# Altium schematic symbol library ADC.SchLib: 1 symbol
Pins are listed as number, name and electrical type; pins without a type are passive.

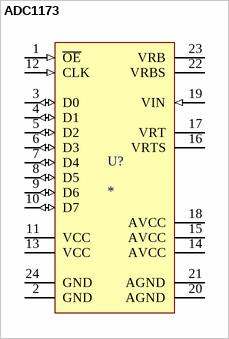
[diagram p0: symbol ADC1173]

## ADC1173
designator U?
footprint SO24 (SOIC24)
pins: 1 ~{OE} (in), 2 GND (power), 3 D0 (io), 4 D1 (io), 5 D2 (io), 6 D3 (io), 7 D4 (io), 8 D5 (io), 9 D6 (io), 10 D7 (io), 11 VCC (power), 12 CLK (in), 13 VCC (power), 14 AVCC (power), 15 AVCC (power), 16 VRTS, 17 VRT, 18 AVCC (power), 19 VIN (in), 20 AGND (power), 21 AGND (power), 22 VRBS, 23 VRB, 24 GND (power)